# Altium schematic symbol library Custom_Library.SCHLIB: 167 symbols (part 2 of 2)
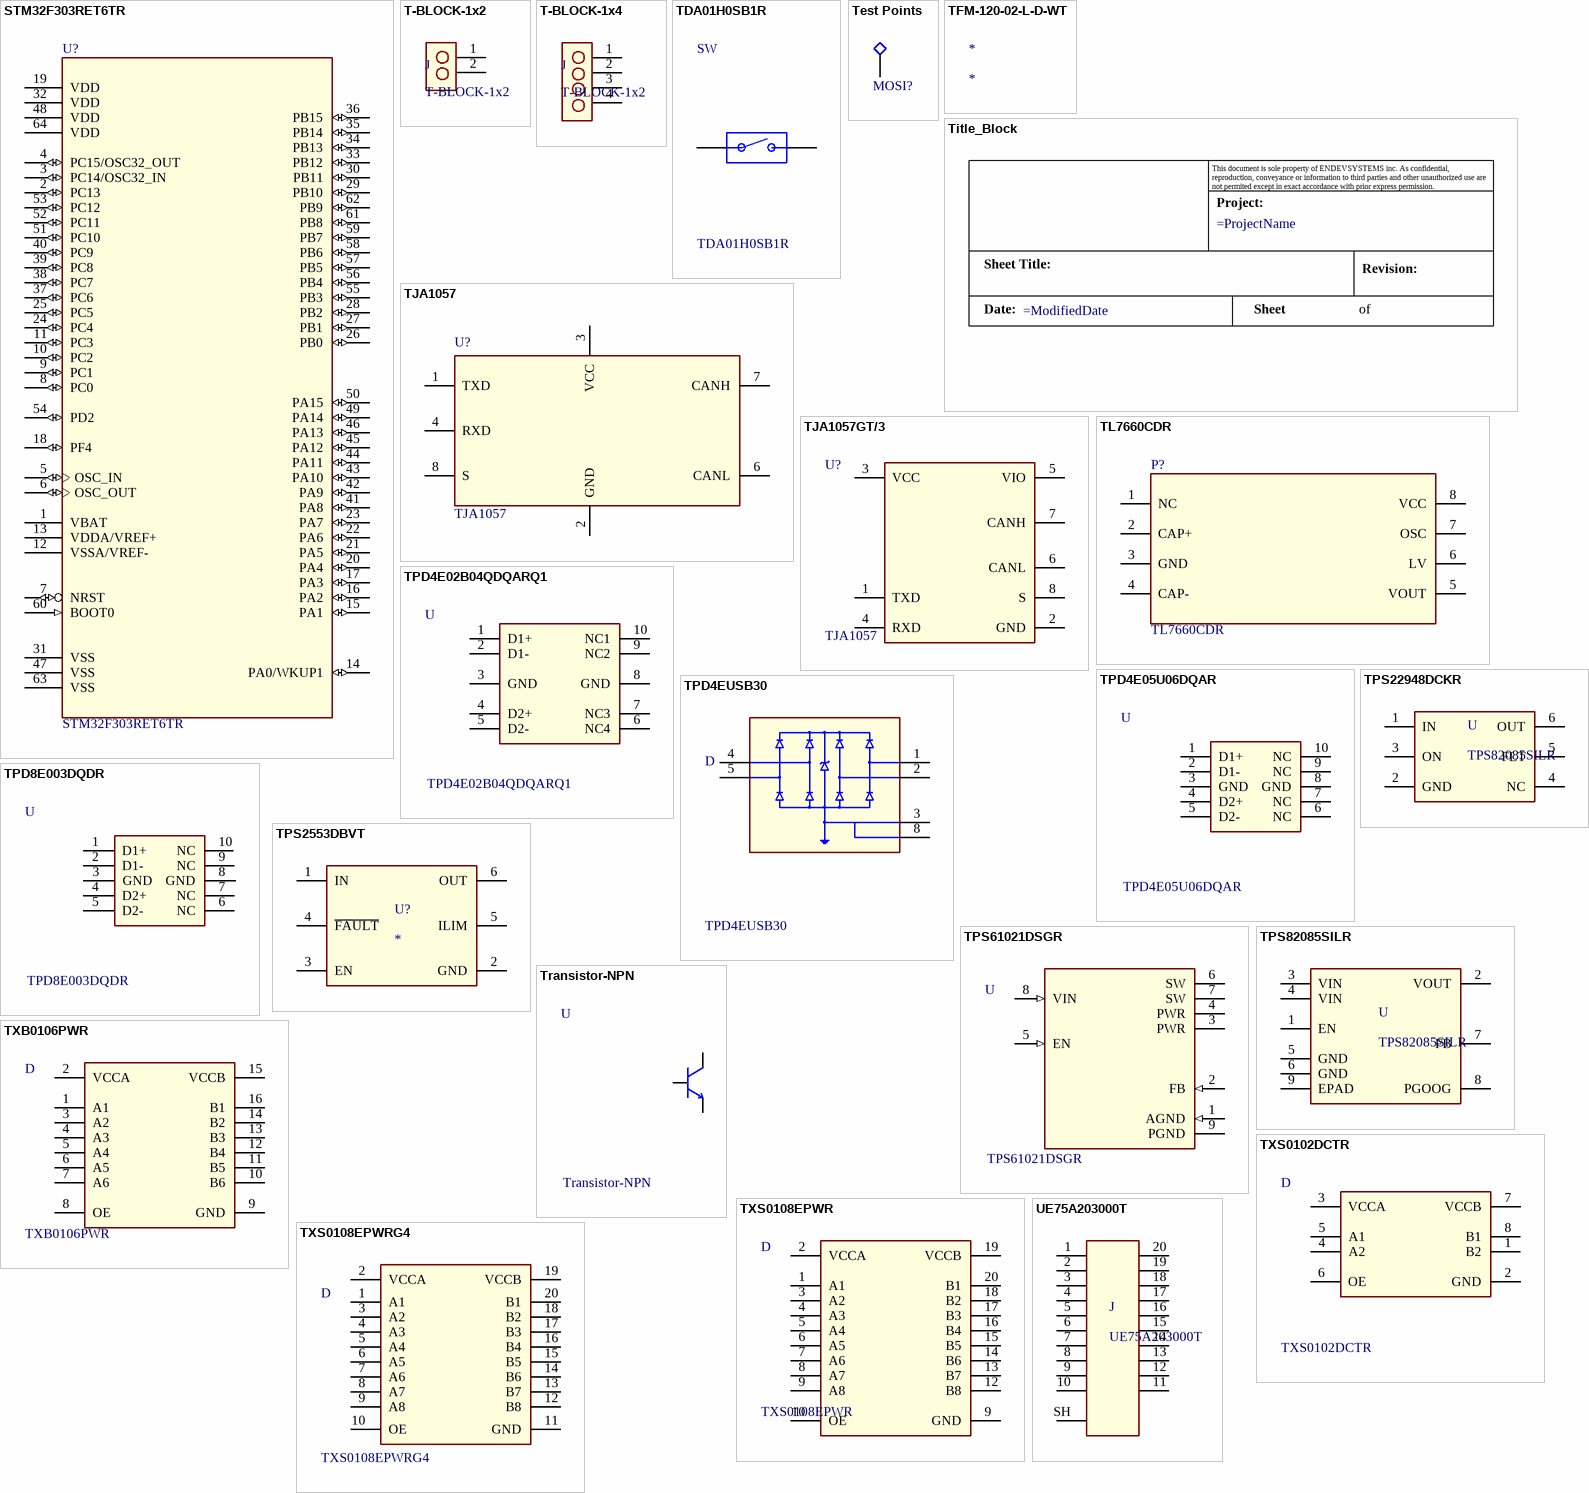
[diagram p12: symbols STM32F303RET6TR to UE75A203000T]

## TDA01H0SB1R
designator SW
SWITCH SLIDE DIP SPST 25MA 24V; Unit Price (USD): 1.7; Mfr. Part No.: TDA01H0SB1R; Supplier: Digikey Electronics; Supplier Part No.: CKN10538TR-ND
footprint TDA01H0SB1R
pins: 1, 2

## Test Points
designator MOSI?  (value not drawn)
footprint D1.8-H1mm
footprint Test Point SMD Square 1.3x1.3 mm
footprint D1.8-H1mm
footprint Test Point TH Round H0.9,D1.6_2
footprint Test Point TH Round H0.9,D1.6
pins: 1

## TFM-120-02-L-D-WT
designator *

## Title_Block
designator ?  (value not drawn)  (graphical)
Date:: =ModifiedDate; Project:: =ProjectName
text: This document is sole property of ENDEVSYSTEMS inc. As confidential, reproduction, conveyance or information to third parties and other unauthorized use are not permited except in exact accordance with prior express permission.; Project:; Sheet Title:; Revision:; Date:; Sheet; of

## TJA1057
designator U?
1/1 Transceiver Half CANbus 8-SO; Mfr. Part No.: TJA1057GTJ; Unit Price (USD): 1.45; Supplier Part No.: 568-13280-1-ND; Supplier: Digikey Electronics
footprint SOIC-8 (W3.9mm) B
pins: 1 TXD, 2 GND, 3 VCC, 4 RXD, 6 CANL, 7 CANH, 8 S

## TJA1057GT/3
designator U?, comment TJA1057
1/1 Transceiver Half CANbus 8-SO; Mfr. Part No.: TJA1057GTJ; Unit Price (USD): 1.45; Supplier Part No.: 568-13280-1-ND; Supplier: Digikey Electronics
footprint SOIC-8 (W3.9mm) B
pins: 1 TXD, 2 GND, 3 VCC, 4 RXD, 5 VIO, 6 CANL, 7 CANH, 8 S

## TL7660CDR
designator P?
IC REG CHARGE PUMP INV 8SOIC; Unit Price (USD): 1.55; Mfr. Part No.: TL7660CDR; Supplier Part No.: 296-21856-1-ND; Supplier: Digikey Electronics
footprint SOIC-8 (W3.9mm) A
pins: 1 NC, 2 CAP+, 3 GND, 4 CAP-, 5 VOUT, 6 LV, 7 OSC, 8 VCC

## TPD4E02B04QDQARQ1
designator U
TVS DIODE 3.6V 8.8V 10USON; Unit Price (USD): 0.61; Mfr. Part No.: TPD4E02B04QDQARQ1; Supplier Part No.: 296-48995-1-ND; Supplier: Digikey Electronics
footprint USON-10-(2.5x1)
pins: 1 D1+, 2 D1-, 3 GND, 4 D2+, 5 D2-, 6 NC4, 7 NC3, 8 GND, 9 NC2, 10 NC1

## TPD4E05U06DQAR
designator U
TVS DIODE 5.5V 14V 10SON; Unit Price (USD): 0.61; Mfr. Part No.: TPD4E05U06DQAR; Supplier Part No.: 296-35765-1-ND; Supplier: Digikey Electronics
footprint USON (2.5x1)
pins: 1 D1+, 2 D1-, 3 GND, 4 D2+, 5 D2-, 6 NC, 7 NC, 8 GND, 9 NC, 10 NC

## TPD4EUSB30
designator D
TVS DIODE 5.5V 8V 10USON; Mfr. Part No.: TPD4EUSB30DQAR; Unit Price (USD): 0.79; Supplier Part No.: 296-28063-1-ND; Supplier: Digikey Electronics
pins: 1 D1+, 2 D1-, 3 GND_3, 4 D2+, 5 D2-, 8 GND_8

## TPD8E003DQDR
designator U
TVS DIODE 5.5V 14V 10SON; Unit Price (USD): 0.61; Mfr. Part No.: TPD8E003DQDR; Supplier Part No.: 296-35765-1-ND; Supplier: Digikey Electronics
footprint USON (2.5x1)
pins: 1 D1+, 2 D1-, 3 GND, 4 D2+, 5 D2-, 6 NC, 7 NC, 8 GND, 9 NC, 10 NC

## TPS2553DBVT
designator U?
75mA - 1.5A, adjustable ILIMIT, 2.5-6.5V, high enable, power switch, 85 mOhm 6-SOT-23 -40 to 85; MF: Texas Instruments; MP: TPS2553DBVT; Price: None; Value: *; Check_prices: https://www.snapeda.com/parts/TPS2553DBVT/Texas%20Instruments/view-part/425867/?ref=eda; Purchase-URL: https://pricing.snapeda.com/search/part/TPS2553DBVT/?ref=eda; Package: SOT-23-6 Texas Instruments; SnapEDA_Link: https://www.snapeda.com/parts/TPS2553DBVT/Texas%20Instruments/view-part/425867/?ref=snap; Availability: Warning
footprint SOT-23-6 (LOAD SWITCH,SOT26,T&R,3K)
pins: 1 IN, 2 GND, 3 EN, 4 ~{FAULT}, 5 ILIM, 6 OUT

## TPS22948DCKR
designator U, comment TPS82085SILR
Power Switch/Driver 1:1 N/P-Channel 130mA SC-70-6; Unit Price (USD): 0.49; Supplier Part No.: 296-TPS22948DCKRCT-ND; Mfr. Part No.: TPS82085SILR; Supplier: Digikey Electronics
footprint SC-70-6/SOT363
pins: 1 IN, 2 GND, 3 ON, 4 NC, 5 FLT, 6 OUT

## TPS61021DSGR
designator U
IC REG BOOST ADJUSTABLE 3A 8WSON; Mfr. Part No.: PCF85063AT/AAZ; Unit Price (USD): 3; Supplier Part No.: TPS61021DSGR-ND; Supplier: Digikey Electronics
pins: 1 AGND (in), 2 FB (in), 3 PWR (power), 4 PWR (power), 5 EN (in), 6 SW (power), 7 SW (power), 8 VIN (in), 9 PGND (power)

## TPS82085SILR
designator U
DC DC CONVERTER 0.8-6V; Unit Price (USD): 3.06; Supplier Part No.: 296-44401-2-ND; Mfr. Part No.: TPS82085SILR; Supplier: Digikey Electronics
footprint 8-uSIP (3x2.8)
pins: 1 EN, 2 VOUT, 3 VIN, 4 VIN, 5 GND, 6 GND, 7 FB, 8 PGOOG, 9 EPAD

## Transistor-NPN
designator U
Supplier: Digikey Electronics
pins: 1, 2, 3

## TXB0106PWR
designator D
IC TRNSLTR BIDIRECTIONAL 16TSSOP; Unit Price (USD): 1.51; Mfr. Part No.: TXB0106PWR; Supplier Part No.: 296-23759-1-ND; Supplier: Digikey Electronics
pins: 1 A1, 2 VCCA, 3 A2, 4 A3, 5 A4, 6 A5, 7 A6, 8 OE, 9 GND, 10 B6, 11 B5, 12 B4, 13 B3, 14 B2, 15 VCCB, 16 B1

## TXS0102DCTR
designator D
IC TRNSLTR BIDIRECTIONAL SM8; Unit Price (USD): 0.69; Mfr. Part No.: TXS0102DCTR; Supplier Part No.: 296-21978-2-ND; Supplier: Digikey Electronics
pins: 1 B2, 2 GND, 3 VCCA, 4 A2, 5 A1, 6 OE, 7 VCCB, 8 B1

## TXS0108EPWR
designator D
Mfr. Part No.: TXS0108EPWR; Supplier: Digikey Electronics
pins: 1 A1, 2 VCCA, 3 A2, 4 A3, 5 A4, 6 A5, 7 A6, 8 A7, 9 GND, 9 A8, 10 OE, 12 B8, 13 B7, 14 B6, 15 B5, 16 B4, 17 B3, 18 B2, 19 VCCB, 20 B1

## TXS0108EPWRG4
designator D
IC TRNSLTR BIDIRECTIONAL 20TSSOP; Unit Price (USD): 1.36; Mfr. Part No.: TXS0108EPWRG4; Supplier Part No.: 296-46258-2-ND; Supplier: Digikey Electronics
footprint TSSOP-20-W4.4mm
pins: 1 A1, 2 VCCA, 3 A2, 4 A3, 5 A4, 6 A5, 7 A6, 8 A7, 9 A8, 10 OE, 11 GND, 12 B8, 13 B7, 14 B6, 15 B5, 16 B4, 17 B3, 18 B2, 19 VCCB, 20 B1

## UE75A203000T
designator J
pins: 1, 2, 3, 4, 5, 6, 7, 8, 9, 10, 11, 12, 13, 14, 15, 16, 17, 18, 19, 20, SH

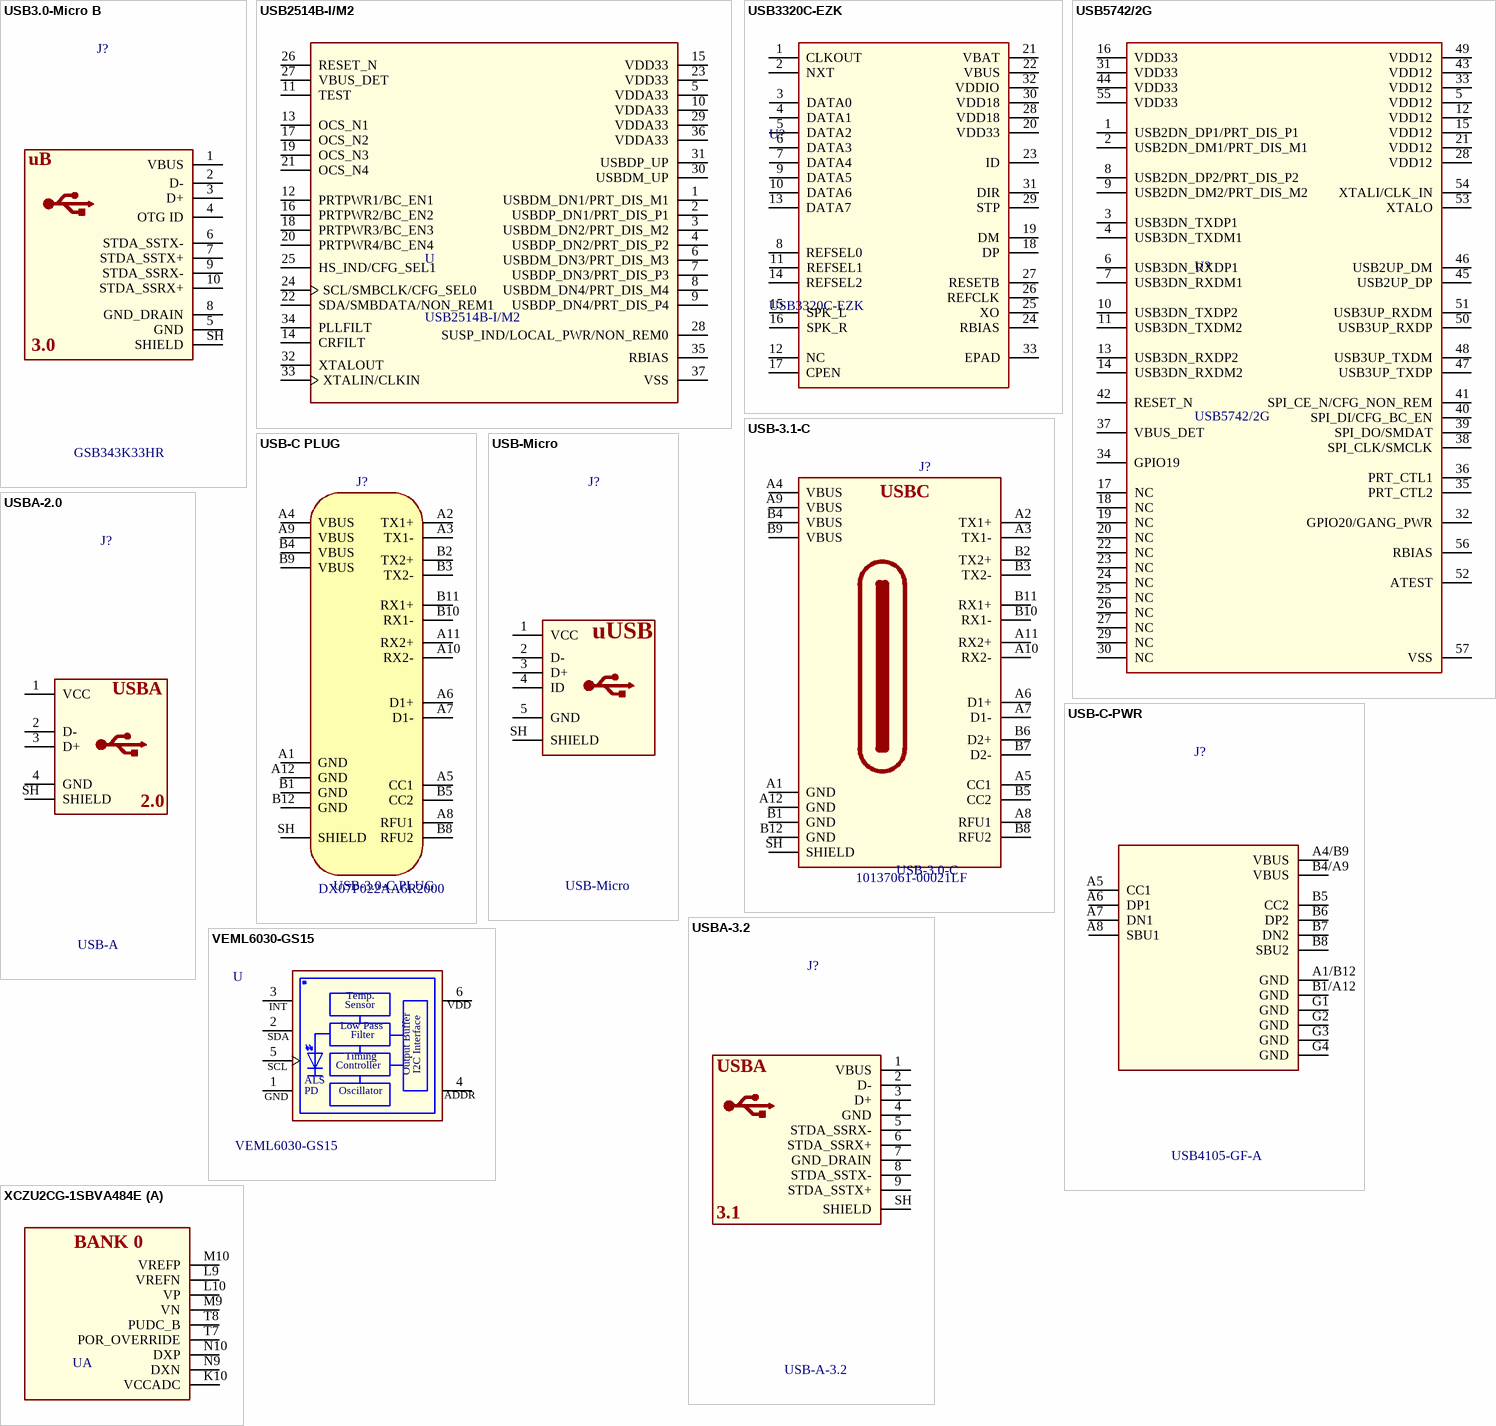
[diagram p9: symbols USB3.0-Micro B to XCZU2CG-1SBVA484E]

## USB3.0-Micro B
designator J?, comment GSB343K33HR
CONN RCPT USB3.0 MICRO B SMD R/A; Unit Price (USD): 1.13; Mfr. Part No.: GSB343K33HR; Supplier Part No.: GSB343K33HRTR-ND; Supplier: Digikey Electronics
footprint USB3.0-Micro B
pins: 1 VBUS, 2 D-, 3 D+, 4 OTG ID, 5 GND, 6 STDA_SSTX-, 7 STDA_SSTX+, 8 GND_DRAIN, 9 STDA_SSRX-, 10 STDA_SSRX+, SH SHIELD
text: uB; 3.0

## USB2514B-I/M2
designator U
IC HUB CTLR 4PORT USB 2.0 HS 36S; Unit Price (USD): 2.94; Mfr. Part No.: USB2514B-I/M2; Supplier Part No.: USB2514B-I/M2-ND; Supplier: Digikey Electronics
pins: 1 USBDM_DN1/PRT_DIS_M1, 2 USBDP_DN1/PRT_DIS_P1, 3 USBDM_DN2/PRT_DIS_M2, 4 USBDP_DN2/PRT_DIS_P2, 5 VDDA33, 6 USBDM_DN3/PRT_DIS_M3, 7 USBDP_DN3/PRT_DIS_P3, 8 USBDM_DN4/PRT_DIS_M4, 9 USBDP_DN4/PRT_DIS_P4, 10 VDDA33, 11 TEST, 12 PRTPWR1/BC_EN1, 13 OCS_N1, 14 CRFILT, 15 VDD33, 16 PRTPWR2/BC_EN2, 17 OCS_N2, 18 PRTPWR3/BC_EN3, 19 OCS_N3, 20 PRTPWR4/BC_EN4, 21 OCS_N4, 22 SDA/SMBDATA/NON_REM1, 23 VDD33, 24 SCL/SMBCLK/CFG_SEL0, 25 HS_IND/CFG_SEL1, 26 RESET_N, 27 VBUS_DET, 28 SUSP_IND/LOCAL_PWR/NON_REM0, 29 VDDA33, 30 USBDM_UP, 31 USBDP_UP, 32 XTALOUT, 33 XTALIN/CLKIN, 34 PLLFILT, 35 RBIAS, 36 VDDA33, 37 VSS

## USB3320C-EZK
designator U?
1/1 Transceiver Half CANbus 8-SO; Unit Price (USD): 1.55; Mfr. Part No.: USB3320C-EZK; Supplier Part No.: USB3320C-EZK-ND; Supplier: Digikey Electronics
footprint QFN-32 (5x5)
pins: 1 CLKOUT, 2 NXT, 3 DATA0, 4 DATA1, 5 DATA2, 6 DATA3, 7 DATA4, 8 REFSEL0, 9 DATA5, 10 DATA6, 11 REFSEL1, 12 NC, 13 DATA7, 14 REFSEL2, 15 SPK_L, 16 SPK_R, 17 CPEN, 18 DP, 19 DM, 20 VDD33, 21 VBAT, 22 VBUS, 23 ID, 24 RBIAS, 25 XO, 26 REFCLK, 27 RESETB, 28 VDD18, 29 STP, 30 VDD18, 31 DIR, 32 VDDIO, 33 EPAD

## USB5742/2G
designator U?
USB Hub Controller USB 3.1 SPI Interface 56-SQFN (7x7); Unit Price (USD): 6.88; Mfr. Part No.: USB5742/2G; Supplier Part No.: USB5742/2G-ND; Supplier: Digikey Electronics
footprint VQFN-56-EP
pins: 1 USB2DN_DP1/PRT_DIS_P1, 2 USB2DN_DM1/PRT_DIS_M1, 3 USB3DN_TXDP1, 4 USB3DN_TXDM1, 5 VDD12, 6 USB3DN_RXDP1, 7 USB3DN_RXDM1, 8 USB2DN_DP2/PRT_DIS_P2, 9 USB2DN_DM2/PRT_DIS_M2, 10 USB3DN_TXDP2, 11 USB3DN_TXDM2, 12 VDD12, 13 USB3DN_RXDP2, 14 USB3DN_RXDM2, 15 VDD12, 16 VDD33, 17 NC, 18 NC, 19 NC, 20 NC, 21 VDD12, 22 NC, 23 NC, 24 NC, 25 NC, 26 NC, 27 NC, 28 VDD12, 29 NC, 30 NC, 31 VDD33, 32 GPIO20/GANG_PWR, 33 VDD12, 34 GPIO19, 35 PRT_CTL2, 36 PRT_CTL1, 37 VBUS_DET, 38 SPI_CLK/SMCLK, 39 SPI_DO/SMDAT, 40 SPI_DI/CFG_BC_EN, 41 SPI_CE_N/CFG_NON_REM, 42 RESET_N, 43 VDD12, 44 VDD33, 45 USB2UP_DP, 46 USB2UP_DM, 47 USB3UP_TXDP, 48 USB3UP_TXDM, 49 VDD12, 50 USB3UP_RXDP, 51 USB3UP_RXDM, 52 ATEST, 53 XTALO, 54 XTALI/CLK_IN, 55 VDD33, 56 RBIAS, 57 VSS

## USB-3.1-C
designator J?, comment USB-3.0-C  Mfr. Part No.: 10137061-00021LF
CONN RCP USB3.0 TYPEC 24P SMD RA; Unit Price (USD): 2.26; Supplier Link: https://www.digikey.com/product-detail/en/amphenol-icc-fci/10137061-00021LF/609-6444-1-ND/9653767; Supplier Part No.: 609-6444-1-ND; Supplier: Digikey Electronics
pins: A1 GND, A2 TX1+, A3 TX1-, A4 VBUS, A5 CC1, A6 D1+, A7 D1-, A8 RFU1, A9 VBUS, A10 RX2-, A11 RX2+, A12 GND, B1 GND, B2 TX2+, B3 TX2-, B4 VBUS, B5 CC2, B6 D2+, B7 D2-, B8 RFU2, B9 VBUS, B10 RX1-, B11 RX1+, B12 GND, SH SHIELD
text: USBC

## USB-C PLUG
designator J?, comment USB-3.0-C PLUG  Mfr. Part No.: DX07P022AA6R2000
USB C TYPE PLUG WITH 22 PINS; Unit Price (USD): 1.56; Supplier Part No.: 670-3150-1-ND; Supplier: Digikey Electronics
footprint USB-C-PLUG-DX07P022AA6R2000
pins: A1 GND, A2 TX1+, A3 TX1-, A4 VBUS, A5 CC1, A6 D1+, A7 D1-, A8 RFU1, A9 VBUS, A10 RX2-, A11 RX2+, A12 GND, B1 GND, B2 TX2+, B3 TX2-, B4 VBUS, B5 CC2, B8 RFU2, B9 VBUS, B10 RX1-, B11 RX1+, B12 GND, SH SHIELD

## USB-C-PWR
designator J?, comment USB4105-GF-A
CONN RCPT USB2.0 TYPEC 5A; Unit Price (USD): 1.57; Supplier Link: https://www.digikey.com/product-detail/en/amphenol-icc-fci/10137061-00021LF/609-6444-1-ND/9653767; Supplier Part No.: 2073-USB4105-GF-ACT-ND; Supplier: Digikey Electronics
pins: A1/B12 GND, A4/B9 VBUS, A5 CC1, A6 DP1, A7 DN1, A8 SBU1, B1/A12 GND, B4/A9 VBUS, B5 CC2, B6 DP2, B7 DN2, B8 SBU2, G1 GND, G2 GND, G3 GND, G4 GND

## USB-Micro
designator J?
CONN RCPT USB2.0 MICRO B SMD R/A; Mfr. Part No.: 10103594-0001LF; Unit Price (USD): 0.72; Supplier Part No.: 609-4050-1-ND; Supplier: Digikey Electronics
footprint USB-micro
pins: 1 VCC, 2 D-, 3 D+, 4 ID, 5 GND, SH SHIELD
text: uUSB

## USBA-2.0
designator J?, comment USB-A
CONN RCPT USB2.0 TYPEA 4P SMD RA; Mfr. Part No.: USB-A-S-F-B-SM2; Unit Price (USD): 1.42; Supplier Part No.: SAM10366-ND; Supplier: Digikey Electronics
pins: 1 VCC, 2 D-, 3 D+, 4 GND, SH SHIELD
text: USBA; 2.0

## USBA-3.2
designator J?, comment USB-A-3.2
CONN RCPT USB A 3.0 9P HI MATING; Mfr. Part No.: USB1086-GF-B; Unit Price (USD): 1.16; Supplier Part No.: 2073-USB1086-GF-B-ND; Supplier: Digikey Electronics
pins: 1 VBUS, 2 D-, 3 D+, 4 GND, 5 STDA_SSRX-, 6 STDA_SSRX+, 7 GND_DRAIN, 8 STDA_SSTX-, 9 STDA_SSTX+, SH SHIELD
text: USBA; 3.1

## VEML6030-GS15
designator U
SENSOR OPT 550NM AMBIENT 6SMD; Unit Price (USD): 2.20; Mfr. Part No.: VEML6030-GS15; Supplier Part No.: VEML6030-GS15CT-ND; Supplier: Digikey Electronics
pins: 1 GND, 2 SDA, 3 INT, 4 ADDR, 5 SCL, 6 VDD
text: Temp.; Sensor; Low Pass; Filter; Timing; Controller; Output Buffer; I2C Interface; ALS; PD; Oscillator

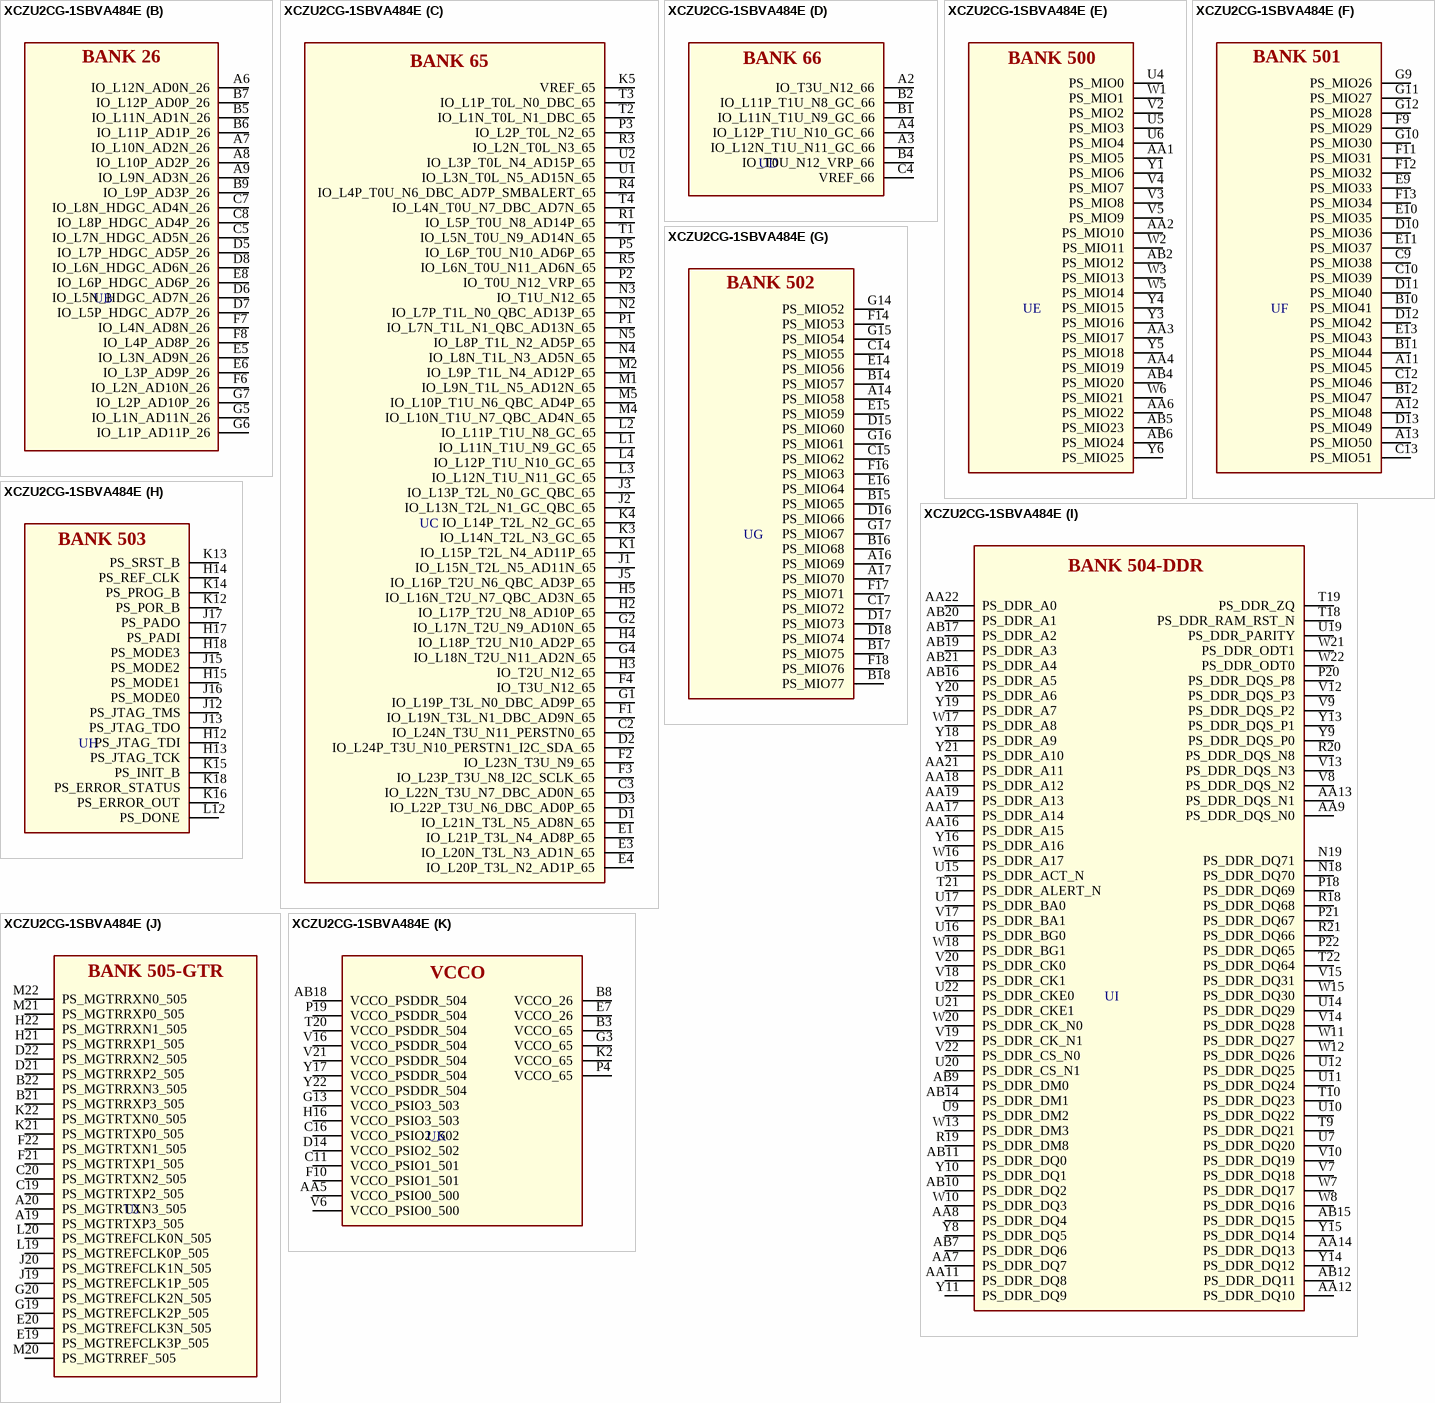
[diagram p10: symbol XCZU2CG-1SBVA484E]

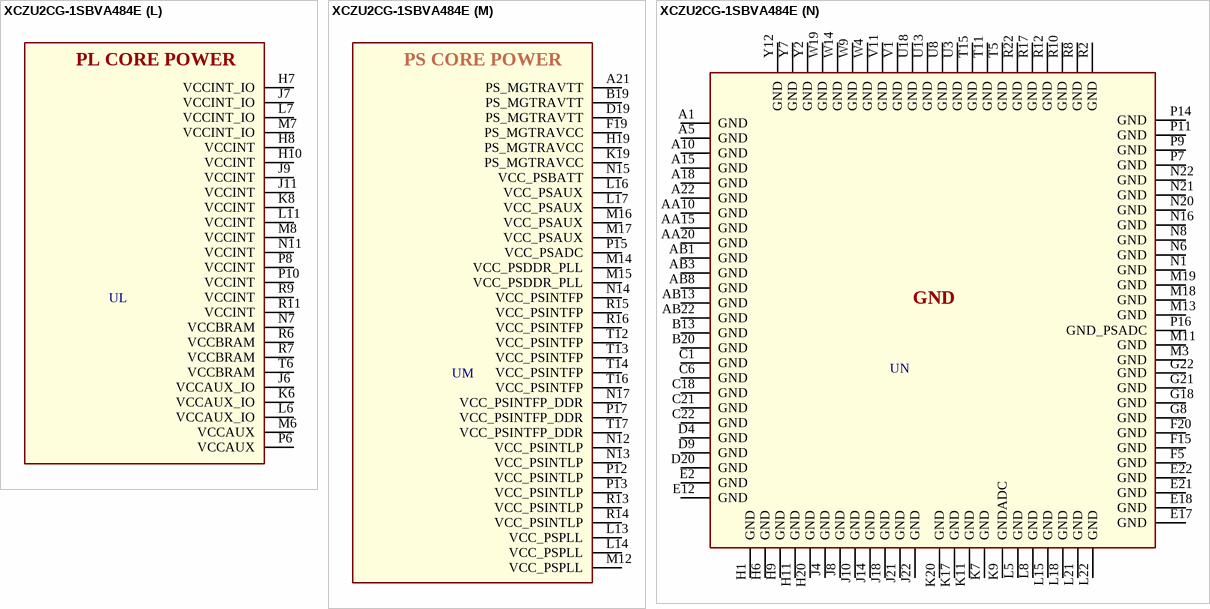
[diagram p11: symbol XCZU2CG-1SBVA484E]

## XCZU2CG-1SBVA484E
designator U  (value not drawn)
IC SOC CORTEX-A53 484FCBGA; Unit Price (USD): 215.8; Mfr. Part No.: XCZU2CG-1SBVA484E; Supplier Part No.: XCZU2CG-1SBVA484E-ND; Supplier: Digikey Electronics
footprint 484-FCBGA (19x19)
part A pins: K10 VCCADC, L9 VREFN, L10 VP, M9 VN, M10 VREFP, N9 DXN, N10 DXP, T7 POR_OVERRIDE, T8 PUDC_B
part B pins: A6 IO_L12N_AD0N_26, A7 IO_L10N_AD2N_26, A8 IO_L10P_AD2P_26, A9 IO_L9N_AD3N_26, B5 IO_L11N_AD1N_26, B6 IO_L11P_AD1P_26, B7 IO_L12P_AD0P_26, B9 IO_L9P_AD3P_26, C5 IO_L7N_HDGC_AD5N_26, C7 IO_L8N_HDGC_AD4N_26, C8 IO_L8P_HDGC_AD4P_26, D5 IO_L7P_HDGC_AD5P_26, D6 IO_L5N_HDGC_AD7N_26, D7 IO_L5P_HDGC_AD7P_26, D8 IO_L6N_HDGC_AD6N_26, E5 IO_L3N_AD9N_26, E6 IO_L3P_AD9P_26, E8 IO_L6P_HDGC_AD6P_26, F6 IO_L2N_AD10N_26, F7 IO_L4N_AD8N_26, F8 IO_L4P_AD8P_26, G5 IO_L1N_AD11N_26, G6 IO_L1P_AD11P_26, G7 IO_L2P_AD10P_26
part C pins: C2 IO_L24N_T3U_N11_PERSTN0_65, C3 IO_L22N_T3U_N7_DBC_AD0N_65, D1 IO_L21N_T3L_N5_AD8N_65, D2 IO_L24P_T3U_N10_PERSTN1_I2C_SDA_65, D3 IO_L22P_T3U_N6_DBC_AD0P_65, E1 IO_L21P_T3L_N4_AD8P_65, E3 IO_L20N_T3L_N3_AD1N_65, E4 IO_L20P_T3L_N2_AD1P_65, F1 IO_L19N_T3L_N1_DBC_AD9N_65, F2 IO_L23N_T3U_N9_65, F3 IO_L23P_T3U_N8_I2C_SCLK_65, F4 IO_T3U_N12_65, G1 IO_L19P_T3L_N0_DBC_AD9P_65, G2 IO_L17N_T2U_N9_AD10N_65, G4 IO_L18N_T2U_N11_AD2N_65, H2 IO_L17P_T2U_N8_AD10P_65, H3 IO_T2U_N12_65, H4 IO_L18P_T2U_N10_AD2P_65, H5 IO_L16N_T2U_N7_QBC_AD3N_65, J1 IO_L15N_T2L_N5_AD11N_65, J2 IO_L13N_T2L_N1_GC_QBC_65, J3 IO_L13P_T2L_N0_GC_QBC_65, J5 IO_L16P_T2U_N6_QBC_AD3P_65, K1 IO_L15P_T2L_N4_AD11P_65, K3 IO_L14N_T2L_N3_GC_65, K4 IO_L14P_T2L_N2_GC_65, K5 VREF_65, L1 IO_L11N_T1U_N9_GC_65, L2 IO_L11P_T1U_N8_GC_65, L3 IO_L12N_T1U_N11_GC_65, L4 IO_L12P_T1U_N10_GC_65, M1 IO_L9N_T1L_N5_AD12N_65, M2 IO_L9P_T1L_N4_AD12P_65, M4 IO_L10N_T1U_N7_QBC_AD4N_65, M5 IO_L10P_T1U_N6_QBC_AD4P_65, N2 IO_L7P_T1L_N0_QBC_AD13P_65, N3 IO_T1U_N12_65, N4 IO_L8N_T1L_N3_AD5N_65, N5 IO_L8P_T1L_N2_AD5P_65, P1 IO_L7N_T1L_N1_QBC_AD13N_65, P2 IO_T0U_N12_VRP_65, P3 IO_L2P_T0L_N2_65, P5 IO_L6P_T0U_N10_AD6P_65, R1 IO_L5P_T0U_N8_AD14P_65, R3 IO_L2N_T0L_N3_65, R4 IO_L4P_T0U_N6_DBC_AD7P_SMBALERT_65, R5 IO_L6N_T0U_N11_AD6N_65, T1 IO_L5N_T0U_N9_AD14N_65, T2 IO_L1N_T0L_N1_DBC_65, T3 IO_L1P_T0L_N0_DBC_65, T4 IO_L4N_T0U_N7_DBC_AD7N_65, U1 IO_L3N_T0L_N5_AD15N_65, U2 IO_L3P_T0L_N4_AD15P_65
part D pins: A2 IO_T3U_N12_66, A3 IO_L12N_T1U_N11_GC_66, A4 IO_L12P_T1U_N10_GC_66, B1 IO_L11N_T1U_N9_GC_66, B2 IO_L11P_T1U_N8_GC_66, B4 IO_T0U_N12_VRP_66, C4 VREF_66
part E pins: AA1 PS_MIO5, AA2 PS_MIO10, AA3 PS_MIO17, AA4 PS_MIO19, AA6 PS_MIO22, AB2 PS_MIO12, AB4 PS_MIO20, AB5 PS_MIO23, AB6 PS_MIO24, U4 PS_MIO0, U5 PS_MIO3, U6 PS_MIO4, V2 PS_MIO2, V3 PS_MIO8, V4 PS_MIO7, V5 PS_MIO9, W1 PS_MIO1, W2 PS_MIO11, W3 PS_MIO13, W5 PS_MIO14, W6 PS_MIO21, Y1 PS_MIO6, Y3 PS_MIO16, Y4 PS_MIO15, Y5 PS_MIO18, Y6 PS_MIO25
part F pins: A11 PS_MIO45, A12 PS_MIO48, A13 PS_MIO50, B10 PS_MIO41, B11 PS_MIO44, B12 PS_MIO47, C9 PS_MIO38, C10 PS_MIO39, C12 PS_MIO46, C13 PS_MIO51, D10 PS_MIO36, D11 PS_MIO40, D12 PS_MIO42, D13 PS_MIO49, E9 PS_MIO33, E10 PS_MIO35, E11 PS_MIO37, E13 PS_MIO43, F9 PS_MIO29, F11 PS_MIO31, F12 PS_MIO32, F13 PS_MIO34, G9 PS_MIO26, G10 PS_MIO30, G11 PS_MIO27, G12 PS_MIO28
part G pins: A14 PS_MIO58, A16 PS_MIO69, A17 PS_MIO70, B14 PS_MIO57, B15 PS_MIO65, B16 PS_MIO68, B17 PS_MIO75, B18 PS_MIO77, C14 PS_MIO55, C15 PS_MIO62, C17 PS_MIO72, D15 PS_MIO60, D16 PS_MIO66, D17 PS_MIO73, D18 PS_MIO74, E14 PS_MIO56, E15 PS_MIO59, E16 PS_MIO64, F14 PS_MIO53, F16 PS_MIO63, F17 PS_MIO71, F18 PS_MIO76, G14 PS_MIO52, G15 PS_MIO54, G16 PS_MIO61, G17 PS_MIO67
part H pins: H12 PS_JTAG_TDI, H13 PS_JTAG_TCK, H14 PS_REF_CLK, H15 PS_MODE1, H17 PS_PADI, H18 PS_MODE3, J12 PS_JTAG_TMS, J13 PS_JTAG_TDO, J15 PS_MODE2, J16 PS_MODE0, J17 PS_PADO, K12 PS_POR_B, K13 PS_SRST_B, K14 PS_PROG_B, K15 PS_INIT_B, K16 PS_ERROR_OUT, K18 PS_ERROR_STATUS, L12 PS_DONE
part I pins: AA7 PS_DDR_DQ7, AA8 PS_DDR_DQ4, AA9 PS_DDR_DQS_N0, AA11 PS_DDR_DQ8, AA12 PS_DDR_DQ10, AA13 PS_DDR_DQS_N1, AA14 PS_DDR_DQ13, AA16 PS_DDR_A15, AA17 PS_DDR_A14, AA18 PS_DDR_A12, AA19 PS_DDR_A13, AA21 PS_DDR_A11, AA22 PS_DDR_A0, AB7 PS_DDR_DQ6, AB9 PS_DDR_DM0, AB10 PS_DDR_DQ2, AB11 PS_DDR_DQ0, AB12 PS_DDR_DQ11, AB14 PS_DDR_DM1, AB15 PS_DDR_DQ15, AB16 PS_DDR_A5, AB17 PS_DDR_A2, AB19 PS_DDR_A3, AB20 PS_DDR_A1, AB21 PS_DDR_A4, N18 PS_DDR_DQ70, N19 PS_DDR_DQ71, P18 PS_DDR_DQ69, P20 PS_DDR_DQS_P8, P21 PS_DDR_DQ67, P22 PS_DDR_DQ65, R18 PS_DDR_DQ68, R19 PS_DDR_DM8, R20 PS_DDR_DQS_N8, R21 PS_DDR_DQ66, T9 PS_DDR_DQ21, T10 PS_DDR_DQ23, T18 PS_DDR_RAM_RST_N, T19 PS_DDR_ZQ, T21 PS_DDR_ALERT_N, T22 PS_DDR_DQ64, U7 PS_DDR_DQ20, U9 PS_DDR_DM2, U10 PS_DDR_DQ22, U11 PS_DDR_DQ24, U12 PS_DDR_DQ25, U14 PS_DDR_DQ29, U15 PS_DDR_ACT_N, U16 PS_DDR_BG0, U17 PS_DDR_BA0, U19 PS_DDR_PARITY, U20 PS_DDR_CS_N1, U21 PS_DDR_CKE1, U22 PS_DDR_CKE0, V7 PS_DDR_DQ18, V8 PS_DDR_DQS_N2, V9 PS_DDR_DQS_P2, V10 PS_DDR_DQ19, V12 PS_DDR_DQS_P3, V13 PS_DDR_DQS_N3, V14 PS_DDR_DQ28, V15 PS_DDR_DQ31, V17 PS_DDR_BA1, V18 PS_DDR_CK1, V19 PS_DDR_CK_N1, V20 PS_DDR_CK0, V22 PS_DDR_CS_N0, W7 PS_DDR_DQ17, W8 PS_DDR_DQ16, W10 PS_DDR_DQ3, W11 PS_DDR_DQ27, W12 PS_DDR_DQ26, W13 PS_DDR_DM3, W15 PS_DDR_DQ30, W16 PS_DDR_A17, W17 PS_DDR_A8, W18 PS_DDR_BG1, W20 PS_DDR_CK_N0, W21 PS_DDR_ODT1, W22 PS_DDR_ODT0, Y8 PS_DDR_DQ5, Y9 PS_DDR_DQS_P0, Y10 PS_DDR_DQ1, Y11 PS_DDR_DQ9, Y13 PS_DDR_DQS_P1, Y14 PS_DDR_DQ12, Y15 PS_DDR_DQ14, Y16 PS_DDR_A16, Y18 PS_DDR_A9, Y19 PS_DDR_A7, Y20 PS_DDR_A6, Y21 PS_DDR_A10
part J pins: A19 PS_MGTRTXP3_505, A20 PS_MGTRTXN3_505, B21 PS_MGTRRXP3_505, B22 PS_MGTRRXN3_505, C19 PS_MGTRTXP2_505, C20 PS_MGTRTXN2_505, D21 PS_MGTRRXP2_505, D22 PS_MGTRRXN2_505, E19 PS_MGTREFCLK3P_505, E20 PS_MGTREFCLK3N_505, F21 PS_MGTRTXP1_505, F22 PS_MGTRTXN1_505, G19 PS_MGTREFCLK2P_505, G20 PS_MGTREFCLK2N_505, H21 PS_MGTRRXP1_505, H22 PS_MGTRRXN1_505, J19 PS_MGTREFCLK1P_505, J20 PS_MGTREFCLK1N_505, K21 PS_MGTRTXP0_505, K22 PS_MGTRTXN0_505, L19 PS_MGTREFCLK0P_505, L20 PS_MGTREFCLK0N_505, M20 PS_MGTRREF_505, M21 PS_MGTRRXP0_505, M22 PS_MGTRRXN0_505
part K pins: AA5 VCCO_PSIO0_500, AB18 VCCO_PSDDR_504, B3 VCCO_65, B8 VCCO_26, C11 VCCO_PSIO1_501, C16 VCCO_PSIO2_502, D14 VCCO_PSIO2_502, E7 VCCO_26, F10 VCCO_PSIO1_501, G3 VCCO_65, G13 VCCO_PSIO3_503, H16 VCCO_PSIO3_503, K2 VCCO_65, P4 VCCO_65, P19 VCCO_PSDDR_504, T20 VCCO_PSDDR_504, V6 VCCO_PSIO0_500, V16 VCCO_PSDDR_504, V21 VCCO_PSDDR_504, Y17 VCCO_PSDDR_504, Y22 VCCO_PSDDR_504
part L pins: H7 VCCINT_IO, H8 VCCINT, H10 VCCINT, J6 VCCAUX_IO, J7 VCCINT_IO, J9 VCCINT, J11 VCCINT, K6 VCCAUX_IO, K8 VCCINT, L6 VCCAUX_IO, L7 VCCINT_IO, L11 VCCINT, M6 VCCAUX, M7 VCCINT_IO, M8 VCCINT, N7 VCCBRAM, N11 VCCINT, P6 VCCAUX, P8 VCCINT, P10 VCCINT, R6 VCCBRAM, R7 VCCBRAM, R9 VCCINT, R11 VCCINT, T6 VCCBRAM
part M pins: A21 PS_MGTRAVTT, B19 PS_MGTRAVTT, D19 PS_MGTRAVTT, F19 PS_MGTRAVCC, H19 PS_MGTRAVCC, K19 PS_MGTRAVCC, L13 VCC_PSPLL, L14 VCC_PSPLL, L16 VCC_PSAUX, L17 VCC_PSAUX, M12 VCC_PSPLL, M14 VCC_PSDDR_PLL, M15 VCC_PSDDR_PLL, M16 VCC_PSAUX, M17 VCC_PSAUX, N12 VCC_PSINTLP, N13 VCC_PSINTLP, N14 VCC_PSINTFP, N15 VCC_PSBATT, N17 VCC_PSINTFP_DDR, P12 VCC_PSINTLP, P13 VCC_PSINTLP, P15 VCC_PSADC, P17 VCC_PSINTFP_DDR, R13 VCC_PSINTLP, R14 VCC_PSINTLP, R15 VCC_PSINTFP, R16 VCC_PSINTFP, T12 VCC_PSINTFP, T13 VCC_PSINTFP, T14 VCC_PSINTFP, T16 VCC_PSINTFP, T17 VCC_PSINTFP_DDR
part N pins: A1 GND, A5 GND, A10 GND, A15 GND, A18 GND, A22 GND, AA10 GND, AA15 GND, AA20 GND, AB1 GND, AB3 GND, AB8 GND, AB13 GND, AB22 GND, B13 GND, B20 GND, C1 GND, C6 GND, C18 GND, C21 GND, C22 GND, D4 GND, D9 GND, D20 GND, E2 GND, E12 GND, E17 GND, E18 GND, E21 GND, E22 GND, F5 GND, F15 GND, F20 GND, G8 GND, G18 GND, G21 GND, G22 GND, H1 GND, H6 GND, H9 GND, H11 GND, H20 GND, J4 GND, J8 GND, J10 GND, J14 GND, J18 GND, J21 GND, J22 GND, K7 GND, K9 GNDADC, K11 GND, K17 GND, K20 GND, L5 GND, L8 GND, L15 GND, L18 GND, L21 GND, L22 GND, M3 GND, M11 GND, M13 GND, M18 GND, M19 GND, N1 GND, N6 GND, N8 GND, N16 GND, N20 GND, N21 GND, N22 GND, P7 GND, P9 GND, P11 GND, P14 GND, P16 GND_PSADC, R2 GND, R8 GND, R10 GND, R12 GND, R17 GND, R22 GND, T5 GND, T11 GND, T15 GND, U3 GND, U8 GND, U13 GND, U18 GND, V1 GND, V11 GND, W4 GND, W9 GND, W14 GND, W19 GND, Y2 GND, Y7 GND, Y12 GND
part A text: BANK 0
part B text: BANK 26
part C text: BANK 65
part D text: BANK 66
part E text: BANK 500
part F text: BANK 501
part G text: BANK 502
part H text: BANK 503
part I text: BANK 504-DDR
part J text: BANK 505-GTR
part K text: VCCO
part L text: PL CORE POWER
part M text: PS CORE POWER